# Altium schematic symbol library SR4L002.SchLib: 1 symbol
Pins are listed as number, name and electrical type; pins without a type are passive.

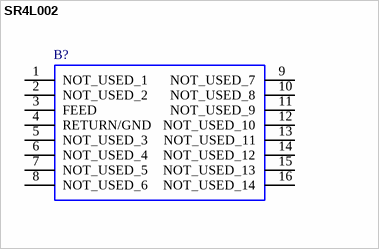
[diagram p0: symbol SR4L002]

## SR4L002
designator B?
Antennas LTE 700-LTE 2400MHz Max RL -6dB; Manufacturer_Name: Antenova; Geometry.Height: 3mm; Manufacturer_Part_Number: SR4L002; Mouser Part Number: 237-SR4L002; Mouser Price/Stock: https://www.mouser.co.uk/ProductDetail/Antenova/SR4L002?qs=mKNKSX85ZJcu02A0ol1abw%3D%3D; Arrow Part Number: SR4L002; Arrow Price/Stock: https://www.arrow.com/en/products/sr4l002/antenova?region=nac; Mouser Testing Part Number: *; Mouser Testing Price/Stock: *; Datasheet Link: https://datasheet.datasheetarchive.com/originals/distributors/DKDS-11/219790.pdf
footprint SR4L002
pins: 1 NOT_USED_1, 2 NOT_USED_2, 3 FEED, 4 RETURN/GND, 5 NOT_USED_3, 6 NOT_USED_4, 7 NOT_USED_5, 8 NOT_USED_6, 9 NOT_USED_7, 10 NOT_USED_8, 11 NOT_USED_9, 12 NOT_USED_10, 13 NOT_USED_11, 14 NOT_USED_12, 15 NOT_USED_13, 16 NOT_USED_14